# Altium footprint library PcbLib.PcbLib: 67 footprints (part 4 of 5)
Each footprint in its own frame and in the unit in brackets; x right, y up, seen from the top. Pads: shape width x height; smd on the part's side, far side on the other; paste and mask are expansions set on the pad; w line width, h text height; cw(c..) or ccw(c..) is an arc to the next point about the centre after c.
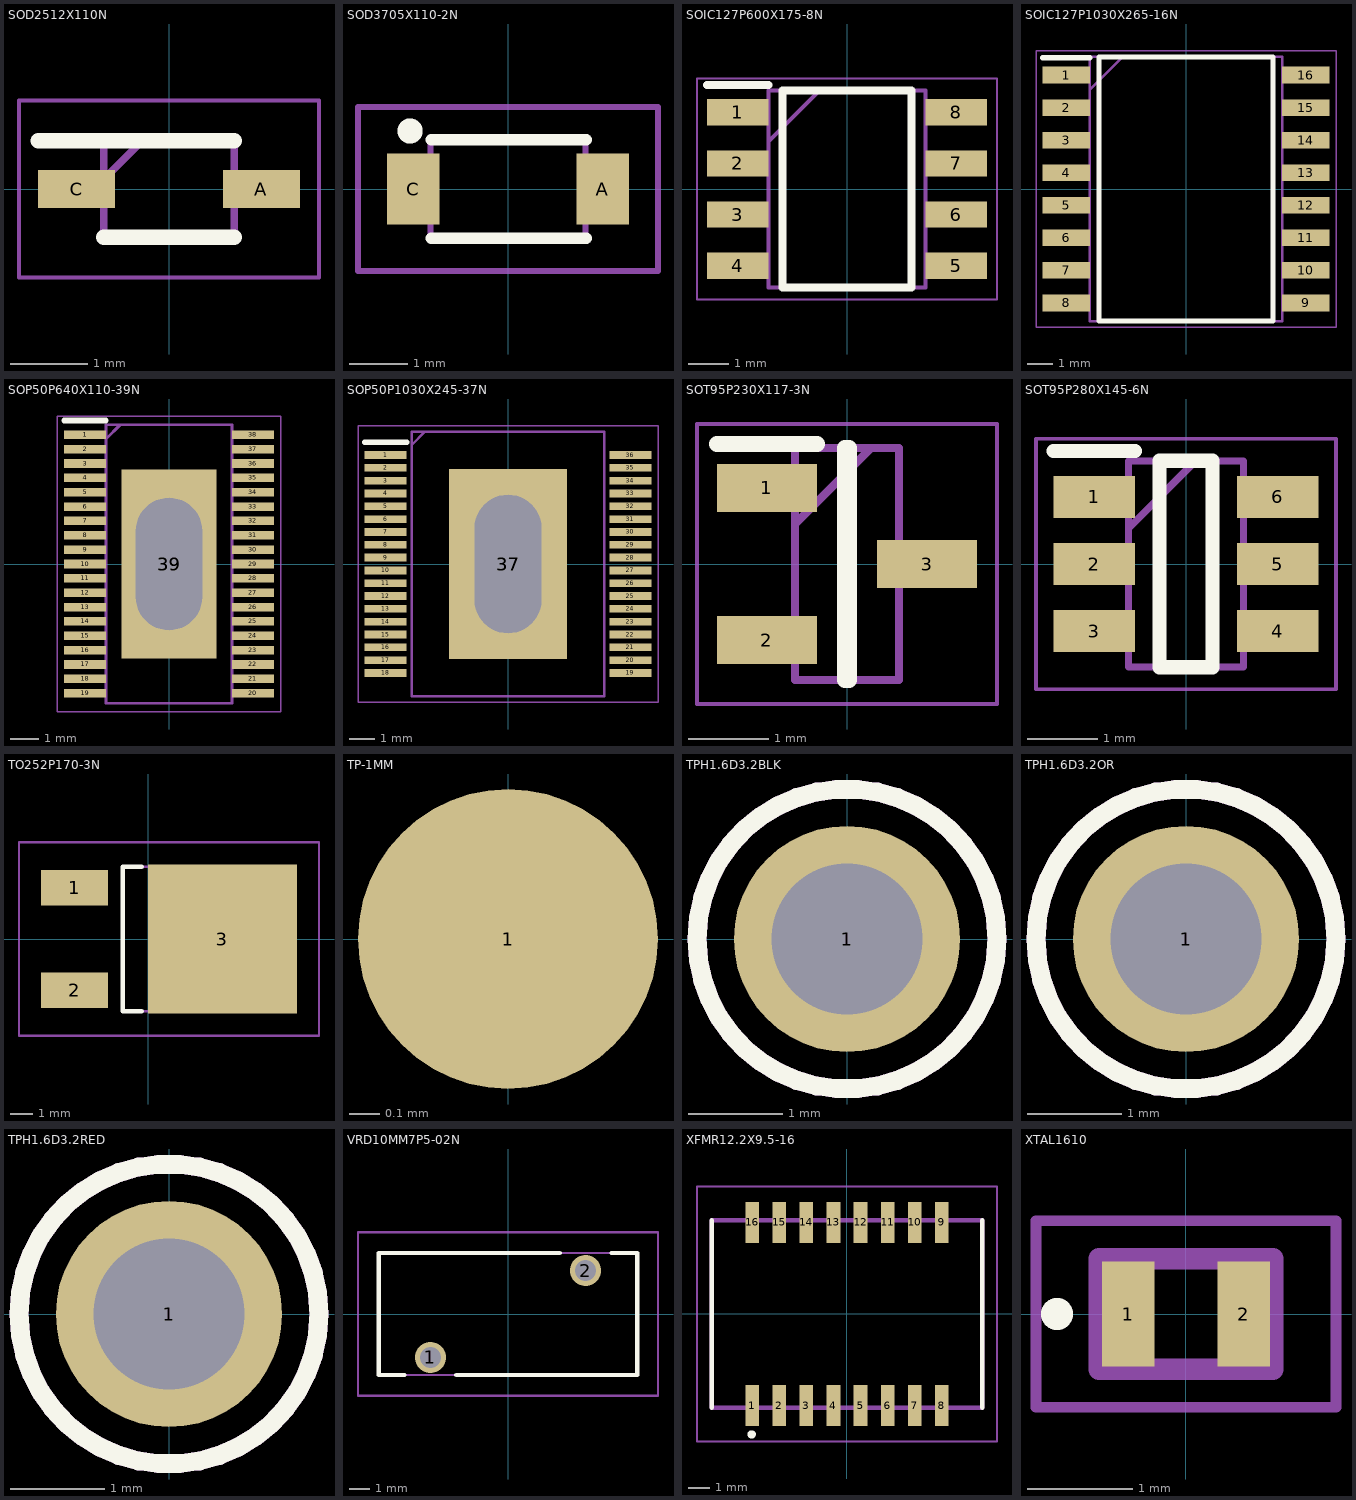
[diagram p3: the footprints below, top view; thin cyan lines are the x and y axes]

## SOD2512X110N [mm]
pads (2):
  rect 1x0.5 smd: A(1.2,0) C(-1.2,0)
Top Overlay:
  lines w0.2: -1.7,0.625 0.85,0.625 ; -0.85,-0.625 0.85,-0.625
Mechanical 13:
  lines w0.1: -0.85,0.125 -0.35,0.625 ; -0.85,-0.625 0.85,-0.625 0.85,0.625 -0.85,0.625 -0.85,-0.625
Mechanical 15:
  lines w0.05: -1.95,-1.15 1.95,-1.15 1.95,1.15 -1.95,1.15 -1.95,-1.15
3D body "ESD7351HT1G.stp": height 1.1, standoff 0, extent -1.25,-0.625 1.25,0.625

## SOD3705X110-2N [mm]
pads (2):
  rect 0.91x1.22 smd: A(1.635,0) C(-1.635,0)
Top Overlay:
  circle w0.254: c-1.688,1 r0.09
  lines w0.2: -1.325,-0.85 1.35,-0.85 ; -1.325,0.85 1.35,0.85
Mechanical 13:
  lines w0.1: -1.338,-0.85 -1.338,0.85 1.338,0.85 1.338,-0.85 -1.338,-0.85
Mechanical 15:
  lines w0.1: -2.588,-1.412 2.588,-1.412 2.588,1.413 -2.588,1.413 -2.588,-1.412
3D body "SOD-123.step": height 1.36, standoff 0, extent -1.925,-0.85 1.925,0.85

## SOIC127P600X175-8N [mm]
pads (8):
  rect 1.525x0.65 smd: 1(-2.712,1.905) 2(-2.712,0.635) 3(-2.712,-0.635) 4(-2.712,-1.905) 5(2.712,-1.905) 6(2.712,-0.635) 7(2.712,0.635) 8(2.712,1.905)
Top Overlay:
  lines w0.2: -3.475,2.58 -1.95,2.58 ; -1.6,-2.45 -1.6,2.45 1.6,2.45 1.6,-2.45 -1.6,-2.45
Mechanical 13:
  lines w0.1: -1.95,1.18 -0.68,2.45 ; -1.95,-2.45 -1.95,2.45 1.95,2.45 1.95,-2.45 -1.95,-2.45
Mechanical 15:
  lines w0.05: -3.725,-2.75 -3.725,2.75 3.725,2.75 3.725,-2.75 -3.725,-2.75
3D body "SN65HVD72DR.stp": height 1.63, standoff 0, extent -3.011,-2.451 3.011,2.451

## SOIC127P1030X265-16N [mm]
pads (16):
  rect 1.85x0.65 smd: 1(-4.675,4.445) 2(-4.675,3.175) 3(-4.675,1.905) 4(-4.675,0.635) 5(-4.675,-0.635) 6(-4.675,-1.905) 7(-4.675,-3.175) 8(-4.675,-4.445) 9(4.675,-4.445) 10(4.675,-3.175) 11(4.675,-1.905) 12(4.675,-0.635) 13(4.675,0.635) 14(4.675,1.905) 15(4.675,3.175) 16(4.675,4.445)
Top Overlay:
  lines w0.2: -5.6,5.12 -3.75,5.12 ; -3.4,-5.15 3.4,-5.15 3.4,5.15 -3.4,5.15 -3.4,-5.15
Mechanical 13:
  lines w0.1: -3.75,3.88 -2.48,5.15 ; -3.75,-5.15 3.75,-5.15 3.75,5.15 -3.75,5.15 -3.75,-5.15
Mechanical 15:
  lines w0.05: -5.85,-5.4 5.85,-5.4 5.85,5.4 -5.85,5.4 -5.85,-5.4
3D body "SI8641ED-B-IS2.stp": height 2.65, standoff 0, extent -5.15,-5.15 5.15,5.15

## SOP50P640X110-39N [mm]
pads (40):
  rect 1.45x0.3 smd: 1(-2.925,4.5) 2(-2.925,4) 3(-2.925,3.5) 4(-2.925,3) 5(-2.925,2.5) 6(-2.925,2) 7(-2.925,1.5) 8(-2.925,1) 9(-2.925,0.5) 10(-2.925,0) 11(-2.925,-0.5) 12(-2.925,-1) 13(-2.925,-1.5) 14(-2.925,-2) 15(-2.925,-2.5) 16(-2.925,-3) 17(-2.925,-3.5) 18(-2.925,-4) 19(-2.925,-4.5) 20(2.925,-4.5) 21(2.925,-4) 22(2.925,-3.5) 23(2.925,-3) 24(2.925,-2.5) 25(2.925,-2) 26(2.925,-1.5) 27(2.925,-1) 28(2.925,-0.5) 29(2.925,0) 30(2.925,0.5) 31(2.925,1) 32(2.925,1.5) 33(2.925,2) 34(2.925,2.5) 35(2.925,3) 36(2.925,3.5) 37(2.925,4) 38(2.925,4.5)
  rect 3.3x6.6 smd: 39(0,0)
  oval 2.3x4.6 hole 2.3 slot 4.6 at 90 deg: 39(0,0)
Top Overlay:
  lines w0.2: -3.65,5 -2.2,5
Top Solder:
  rectangle: 2.1,-4.75 3.75,4.75
  rectangle: -3.75,-4.75 -2.1,4.75
Mechanical 13:
  lines w0.1: -2.2,4.35 -1.7,4.85 ; -2.2,-4.85 2.2,-4.85 2.2,4.85 -2.2,4.85 -2.2,-4.85
Mechanical 15:
  lines w0.05: -3.9,-5.15 3.9,-5.15 3.9,5.15 -3.9,5.15 -3.9,-5.15
3D body "SCLT3-8BT8.stp": height 1.1, standoff 0, extent -3.2,-4.85 3.2,4.85

## SOP50P1030X245-37N [mm]
pads (38):
  rect 1.65x0.3 smd: 1(-4.775,4.25) 2(-4.775,3.75) 3(-4.775,3.25) 4(-4.775,2.75) 5(-4.775,2.25) 6(-4.775,1.75) 7(-4.775,1.25) 8(-4.775,0.75) 9(-4.775,0.25) 10(-4.775,-0.25) 11(-4.775,-0.75) 12(-4.775,-1.25) 13(-4.775,-1.75) 14(-4.775,-2.25) 15(-4.775,-2.75) 16(-4.775,-3.25) 17(-4.775,-3.75) 18(-4.775,-4.25) 19(4.775,-4.25) 20(4.775,-3.75) 21(4.775,-3.25) 22(4.775,-2.75) 23(4.775,-2.25) 24(4.775,-1.75) 25(4.775,-1.25) 26(4.775,-0.75) 27(4.775,-0.25) 28(4.775,0.25) 29(4.775,0.75) 30(4.775,1.25) 31(4.775,1.75) 32(4.775,2.25) 33(4.775,2.75) 34(4.775,3.25) 35(4.775,3.75) 36(4.775,4.25)
  rect 4.6x7.4 smd: 37(0,0)
  oval 2.6x5.4 hole 2.6 slot 5.4 at 90 deg: 37(0,0)
Top Overlay:
  lines w0.2: -5.6,4.75 -3.95,4.75
Top Solder:
  rectangle: -5.7,-4.5 -3.85,4.5
  rectangle: 3.85,-4.5 5.7,4.5
Mechanical 13:
  lines w0.1: -3.75,4.65 -3.25,5.15 ; -3.75,-5.15 -3.75,5.15 3.75,5.15 3.75,-5.15 -3.75,-5.15
Mechanical 15:
  lines w0.05: -5.85,-5.4 -5.85,5.4 5.85,5.4 5.85,-5.4 -5.85,-5.4
3D body "VNI8200XP-32.stp": height 2.45, standoff 0, extent -5.15,-5.15 5.15,5.15

## SOT95P230X117-3N [mm]
pads (3):
  rect 1.25x0.6 smd: 1(-1,0.95) 2(-1,-0.95) 3(1,0)
Top Overlay:
  lines w0.2: -1.625,1.5 -0.375,1.5 ; -0.025,-1.45 -0.025,1.45 0.025,1.45 0.025,-1.45 -0.025,-1.45
Mechanical 13:
  lines w0.1: -0.65,0.5 0.3,1.45 ; -0.65,-1.45 -0.65,1.45 0.65,1.45 0.65,-1.45 -0.65,-1.45
Mechanical 15:
  lines w0.05: -1.875,-1.75 -1.875,1.75 1.875,1.75 1.875,-1.75 -1.875,-1.75
3D body "CDSOT23-SM712.stp": height 1.17, standoff 0, extent -1.148,-1.45 1.148,1.45

## SOT95P280X145-6N [mm]
pads (6):
  rect 1.15x0.6 smd: 1(-1.3,0.95) 2(-1.3,0) 3(-1.3,-0.95) 4(1.3,-0.95) 5(1.3,0) 6(1.3,0.95)
Top Overlay:
  lines w0.2: -1.875,1.6 -0.725,1.6 ; -0.375,-1.462 -0.375,1.462 0.375,1.462 0.375,-1.462 -0.375,-1.462
Mechanical 13:
  lines w0.1: -0.812,0.512 0.138,1.462 ; -0.812,-1.462 -0.812,1.462 0.812,1.462 0.812,-1.462 -0.812,-1.462
Mechanical 15:
  lines w0.05: -2.125,-1.775 -2.125,1.775 2.125,1.775 2.125,-1.775 -2.125,-1.775
3D body "USBLC6-4SC6.stp": height 1.45, standoff 0, extent -1.4,-1.462 1.4,1.462

## TO252P170-3N [mm] "TO252-3 (DPAK)"
height 2.4
pads (3):
  rect 3x1.6 smd: 1(-3.325,2.3) 2(-3.325,-2.3)
  rect 6.7x6.7 smd: 3(3.325,0)
Top Overlay:
  lines w0.2: -0.3,-3.25 -1.15,-3.25 -1.15,3.25 -0.3,3.25
Mechanical 13:
  lines w0.1: -1.15,-3.25 4.95,-3.25 4.95,3.25 -1.15,3.25 -1.15,-3.25
Mechanical 15:
  lines w0.1: -5.825,-4.35 7.675,-4.35 7.675,4.35 -5.825,4.35 -5.825,-4.35
3D body "LD1117DT33CTR.stp": height 2.4, standoff 0, extent -3.933,-3.25 5.792,3.25

## TP-1MM [mm]
pads (1):
  round 1 smd: 1(0,0)

## TPH1.6D3.2BLK [mm] "Test point Mtg. Hole 1.6, loop 3.2"
height 5.6
pads (1):
  round 2.4 hole 1.6: 1(0,0)
Top Overlay:
  circle w0.2: c0,0 r1.59
Mechanical 13:
  circle w0.2: c0,0 r1.59
3D body "5006.stp": height 5.6, standoff -3.34, extent -1.588,-1.6 1.588,1.6

## TPH1.6D3.2OR [mm] "Test point Mtg. Hole 1.6, loop 3.2"
height 5.6
pads (1):
  round 2.4 hole 1.6: 1(0,0)
Top Overlay:
  circle w0.2: c0,0 r1.59
Mechanical 13:
  circle w0.2: c0,0 r1.59
3D body "5008.stp": height 5.58, standoff -3.3, extent -1.587,-1.576 1.587,1.576

## TPH1.6D3.2RED [mm] "Test point Mtg. Hole 1.6, loop 3.2"
height 5.6
pads (1):
  round 2.4 hole 1.6: 1(0,0)
Top Overlay:
  circle w0.2: c0,0 r1.59
Mechanical 13:
  circle w0.2: c0,0 r1.59
3D body "5005.stp": height 5.58, standoff -3.3, extent -1.587,-1.576 1.587,1.576

## VRD10MM7P5-02N [mm] "Radial Varistor, diameter 10mm, pitch 7.5mm, trough hole,"
height 15.5
pads (2):
  round 1.5 hole 1: 1(-3.75,-2.1) 2(3.75,2.1)
Top Overlay:
  lines w0.2: -5,-2.95 -6.25,-2.95 -6.25,2.95 2.5,2.95 ; -2.5,-2.95 6.25,-2.95 6.25,2.95 5,2.95
Mechanical 13:
  lines w0.1: -6.25,-2.95 6.25,-2.95 6.25,2.95 -6.25,2.95 -6.25,-2.95
Mechanical 15:
  lines w0.1: -7.25,-3.95 7.25,-3.95 7.25,3.95 -7.25,3.95 -7.25,-3.95
3D body "MOV-10D561K.stp": height 14.94, standoff -17.56, extent -6.25,-2.951 6.25,2.95

## XFMR12.2X9.5-16 [mm]
pads (16):
  rect 0.64x1.91 smd: 1(-4.445,-4.295) 2(-3.175,-4.295) 3(-1.905,-4.295) 4(-0.635,-4.295) 5(0.635,-4.295) 6(1.905,-4.295) 7(3.175,-4.295) 8(4.445,-4.295) 9(4.445,4.295) 10(3.175,4.295) 11(1.905,4.295) 12(0.635,4.295) 13(-0.635,4.295) 14(-1.905,4.295) 15(-3.175,4.295) 16(-4.445,4.295)
Top Overlay:
  circle w0.2: c-4.471,-5.648 r0.094
  lines w0.2: -6.35,-4.4 -6.35,4.4 ; 6.35,-4.4 6.35,4.4
Mechanical 13:
  lines w0.2: -6.35,-4.4 -6.35,4.4 6.35,4.4 6.35,-4.4 -6.35,-4.4
Mechanical 15:
  lines w0.1: -7.038,-5.975 7.038,-5.975 7.038,5.975 -7.038,5.975 -7.038,-5.975
3D body "749013011A (rev1).stp": height 5.4, standoff 0, extent -6.1,-4.76 6.1,4.76

## XTAL1610 [mm]
pads (2):
  rect 0.5x1 smd: 1(-0.55,0) 2(0.55,0)
Top Overlay:
  circle w0.254: c-1.225,0 r0.025
Mechanical 13:
  lines w0.2: -0.825,-0.525 -0.825,0.525 0.825,0.525 0.825,-0.525 -0.825,-0.525
Mechanical 15:
  lines w0.1: -1.425,-0.887 1.425,-0.887 1.425,0.888 -1.425,0.888 -1.425,-0.887
3D body "FC1610AN_32.7680KA-A3.stp": height 0.6, standoff 0, extent -0.825,-0.525 0.825,0.525